# EAGLE library part ICESTAMPUL1K (library icestamp1k)
iCEStampUL1K. Low power alternative to iCEStamp1k. Stamp size iCE40UL1K FPGA board. With on board Vcore (1v2) regulator. Castellated holes allow you to solder this board directly on the larger PCB. This way you can reduce the cost of PCB production.
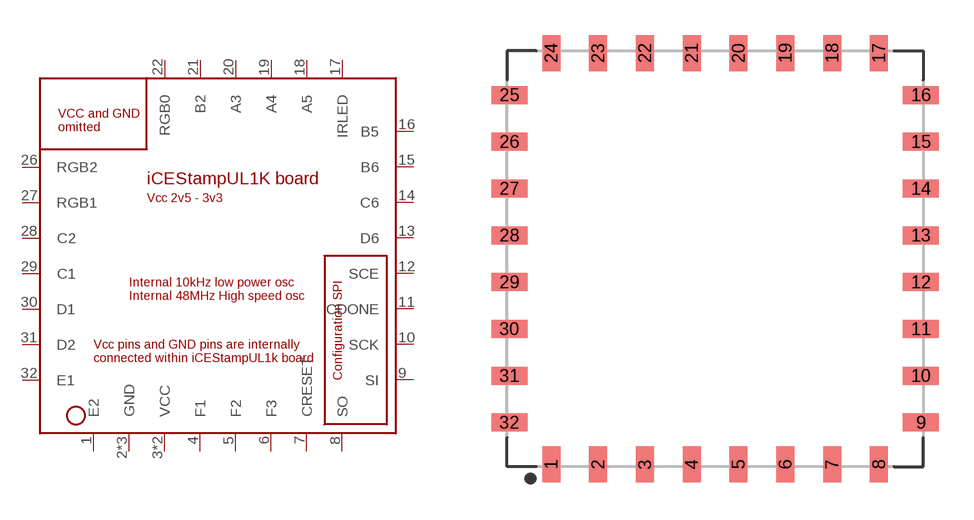
[diagram p1: symbol with the pads of QFN200P1777X1777X200-32N; footprint QFN200P1777X1777X200-32N]

Designator prefix -

## ICESTAMPUL1K  [QFN200P1777X1777X200-32N]
1  E2
2  GND
3  VCC
4  F1
5  F2
6  F3
7  CRESET
8  SO
9  SI
10  SCK
11  CDONE
12  SCE
13  D6
14  C6
15  B6
16  B5
17  IRLED
18  A5
19  A4
20  A3
21  B2
22  RGB0
23  GND
24  GND
25  VCC
26  RGB2
27  RGB1
28  C2
29  C1
30  D1
31  D2
32  E1

## Footprint QFN200P1777X1777X200-32N (pad centres in mm)
32-QFN, 2.00 mm pitch, 17.77 X 17.77 X 2.00 mm body 32-pin QFN package with 2.00 mm pitch with body size 17.77 X 17.77 X 2.00 mm
smd 0.77 x 1.535: 1 -7,-8.791; 2 -5,-8.791; 3 -3,-8.791; 4 -1,-8.791; 5 1,-8.791; 6 3,-8.791; 7 5,-8.791; 8 7,-8.791; 17 7,8.791; 18 5,8.791; 19 3,8.791; 20 1,8.791; 21 -1,8.791; 22 -3,8.791; 23 -5,8.791; 24 -7,8.791
smd 1.535 x 0.77: 9 8.791,-7; 10 8.791,-5; 11 8.791,-3; 12 8.791,-1; 13 8.791,1; 14 8.791,3; 15 8.791,5; 16 8.791,7; 25 -8.791,7; 26 -8.791,5; 27 -8.791,3; 28 -8.791,1; 29 -8.791,-1; 30 -8.791,-3; 31 -8.791,-5; 32 -8.791,-7